# Altium footprint library Conn_Molex_22-05-7035_eec_MFG.PcbLib: 1 footprints
Each footprint in its own frame and in the unit in brackets; x right, y up, seen from the top. Pads: shape width x height; smd on the part's side, far side on the other; paste and mask are expansions set on the pad; w line width, h text height; cw(c..) or ccw(c..) is an arc to the next point about the centre after c.
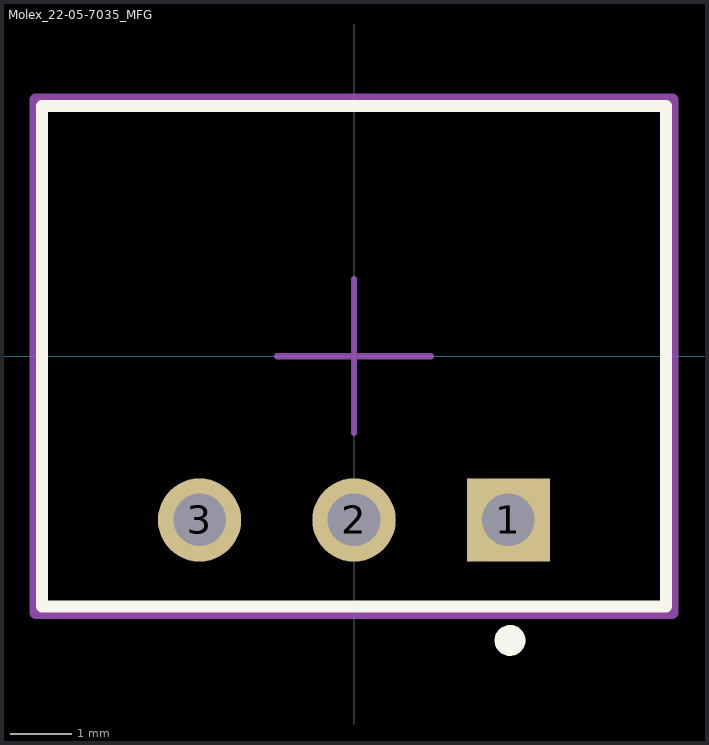
[diagram p0: the footprint, top view; thin cyan lines are the x and y axes]

## Molex_22-05-7035_MFG [mm]
pads (3):
  rect 1.35x1.35 hole 0.85 paste-1000 mask+0: 1(2.5,-2.65)
  round 1.35 hole 0.85 paste-1000 mask+0: 2(0,-2.65) 3(-2.5,-2.65)
Top Overlay:
  circle w0.25: c2.525,-4.6 r0.125
  lines w0.2: -5.05,-4.05 -5.05,4.05 5.05,4.05 5.05,-4.05 -5.05,-4.05
Mechanical 10:
  lines w0.2: -5.15,-4.15 -5.15,4.15 5.15,4.15 5.15,-4.15 -5.15,-4.15
  text ".Designator" at 0,0 h1
Mechanical 12:
  lines w0.15: -5.05,-4.05 -5.05,4.05 5.05,4.05 5.05,-4.05 -5.05,-4.05
Mechanical 15:
  lines w0.1: -1.245,0 1.245,0 ; 0,-1.245 0,1.245
  lines w0.2: -5.15,-4.15 -5.15,4.15 5.15,4.15 5.15,-4.15 -5.15,-4.15
3D body "Conn_Molex_22-05-7035_eec.STEP": height 0.25, standoff 0, extent -5.15,-4.15 5.15,4.15